# Altium schematic symbol library Relay-AQH3223A.SchLib: 1 symbol
Pins are listed as number, name and electrical type; pins without a type are passive.

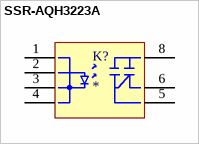
[diagram p0: symbol SSR-AQH3223A]

## SSR-AQH3223A
designator K?
SSR SPST 1.2A 0~600V; Digi-Key Part Number: 255-2663-ND
footprint AQH3223A (SSR SPST, 1.2A 0~600V)
pins: 1 -, 2 +, 3 -, 4 -, 5, 6, 8